# Altium footprint library 6-Pin Through Hole Header, pitch 2.54.PcbLib: 2 footprints
Each footprint in its own frame and in the unit in brackets; x right, y up, seen from the top. Pads: shape width x height; smd on the part's side, far side on the other; paste and mask are expansions set on the pad; w line width, h text height; cw(c..) or ccw(c..) is an arc to the next point about the centre after c.
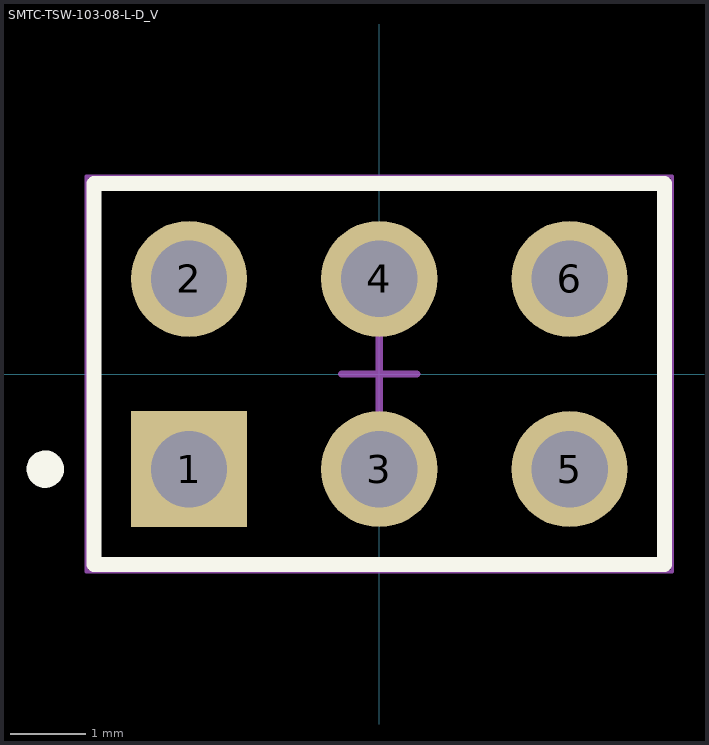
[diagram p0: the footprints below, top view; thin cyan lines are the x and y axes]

## PCBComponent_1 [mm]

## SMTC-TSW-103-08-L-D_V [mm] "CONN, 6-Leads, Body 7.62x5.08mm, Pitch 2.54mm"
height 8.38
pads (6):
  rect 1.55x1.55 hole 1.02: 1(-2.54,-1.27)
  round 1.55 hole 1.02: 2(-2.54,1.27) 3(0,-1.27) 4(0,1.27) 5(2.54,-1.27) 6(2.54,1.27)
Top Overlay:
  circle w0.25: c-4.46,-1.27 r0.125
  lines w0.2: -3.81,-2.54 3.81,-2.54 3.81,2.54 -3.81,2.54 -3.81,-2.54
Mechanical 13:
  lines w0.1: -3.81,-2.54 3.81,-2.54 3.81,2.54 -3.81,2.54 -3.81,-2.54
Mechanical 15:
  lines w0.05: -3.91,-2.64 3.91,-2.64 3.91,2.64 -3.91,2.64 -3.91,-2.64
  lines w0.1: -0.5,0 0.5,0 ; 0,-0.5 0,0.5
3D body "TSW-103-08-L-D.stp": height 8.38, standoff -5.08, extent -3.81,-2.54 3.81,2.54